# EAGLE library part ESHF-108-01-L-D-? (library samtec)
(1.27 mm) .050" Ummantelte & Auswerf-Stiftleisten
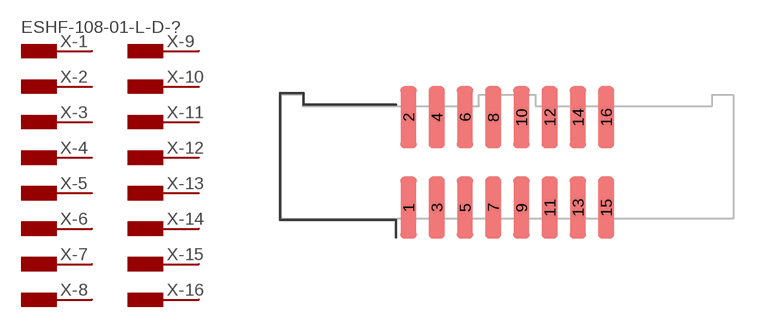
[diagram p0: symbol with the pads of SAMTEC_ESHF-108-01-L-D-SM; footprint SAMTEC_ESHF-108-01-L-D-SM]

Designator prefix X; gates -1=CONTACT_MALE -2=CONTACT_MALE -3=CONTACT_MALE -4=CONTACT_MALE -5=CONTACT_MALE -6=CONTACT_MALE -7=CONTACT_MALE -8=CONTACT_MALE -9=CONTACT_MALE -10=CONTACT_MALE -11=CONTACT_MALE -12=CONTACT_MALE -13=CONTACT_MALE -14=CONTACT_MALE -15=CONTACT_MALE -16=CONTACT_MALE G$17=VALUE

## ESHF-108-01-L-D-SM (HEIGHT: 5.46; PARTNUMBER: ESHF-108-01-L-D-SM)  [SAMTEC_ESHF-108-01-L-D-SM]
1  -1:1
2  -2:1
3  -3:1
4  -4:1
5  -5:1
6  -6:1
7  -7:1
8  -8:1
9  -9:1
10  -10:1
11  -11:1
12  -12:1
13  -13:1
14  -14:1
15  -15:1
16  -16:1

## Footprint SAMTEC_ESHF-108-01-L-D-SM (pad centres in mm)
(1.27 mm) .050" Ummantelte & Auswerf-Stiftleisten
smd 0.74 x 2.8: 1 -4.445,-2.033; 2 -4.445,2.033; 3 -3.175,-2.033; 4 -3.175,2.033; 5 -1.905,-2.033; 6 -1.905,2.033; 7 -0.635,-2.033; 8 -0.635,2.033; 9 0.635,-2.033; 10 0.635,2.033; 11 1.905,-2.033; 12 1.905,2.033; 13 3.175,-2.033; 14 3.175,2.033; 15 4.445,-2.033; 16 4.445,2.033